# EAGLE library part CLX6E-FKC (library D-Cree-CLX6E-RGB-LED)
digikey part number: CLX6E-FKC-CH1M1D1BB7C3D3CT-ND
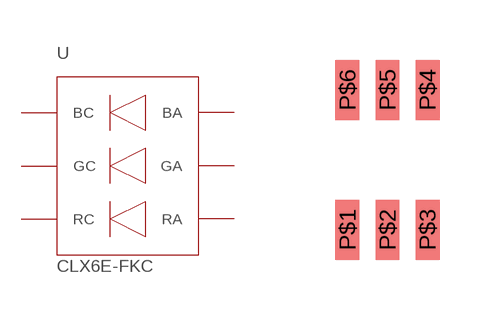
[diagram p0: symbol with the pads of CLX6E-FKC; footprint CLX6E-FKC]

Designator prefix -

## CLX6E-FKC  [CLX6E-FKC]
P$1  BC
P$2  GC
P$3  RC
P$4  RA
P$5  GA
P$6  BA

## Footprint CLX6E-FKC (pad centres in mm)
smd 0.6 x 1.5: P$1 -1,-1.75; P$2 0,-1.75; P$3 1,-1.75; P$4 1,1.75; P$5 0,1.75; P$6 -1,1.75